# EAGLE library part 74*76 (library 74ttl-din)
Dual J-K FLIP FLOP, preset and clear
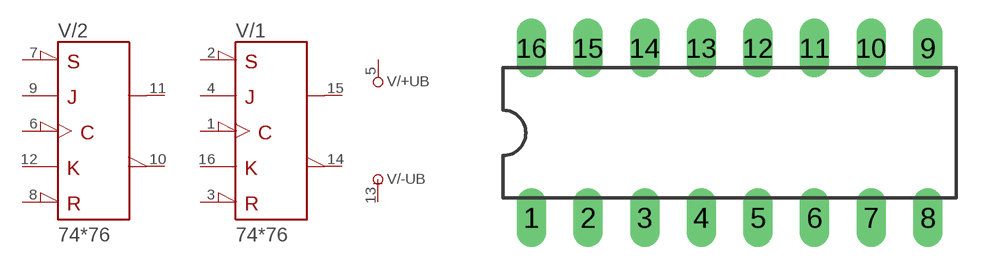
[diagram p75: symbol with the pads of DIL16; footprint DIL16]

Designator prefix V; gates /+UB=+UB /-UB=-UB /1=76 /2=76

## 7476N  [DIL16]
1  /1:CLK  in
2  /1:!PRE  in
3  /1:!CLR  in
4  /1:J  in
5  /+UB:+UB  pwr
6  /2:CLK  in
7  /2:!PRE  in
8  /2:!CLR  in
9  /2:J  in
10  /2:!Q  out
11  /2:Q  out
12  /2:K  in
13  /-UB:-UB  pwr
14  /1:!Q  out
15  /1:Q  out
16  /1:K  in

## Footprint DIL16 (pad centres in mm)
Dual In Line Package
drill 0.813 long: 1 -8.89,-3.81; 2 -6.35,-3.81; 3 -3.81,-3.81; 4 -1.27,-3.81; 5 1.27,-3.81; 6 3.81,-3.81; 7 6.35,-3.81; 8 8.89,-3.81; 9 8.89,3.81; 10 6.35,3.81; 11 3.81,3.81; 12 1.27,3.81; 13 -1.27,3.81; 14 -3.81,3.81; 15 -6.35,3.81; 16 -8.89,3.81